# Altium integrated library TPD2E001DRLR.IntLib: 1 symbol
Pins are listed as number, name and electrical type; pins without a type are passive.

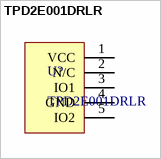
[diagram p0: symbol TPD2E001DRLR]

## TPD2E001DRLR
designator U?
TPD2E001DRLR ESD-PROTECTION; Fabricante: Texas Instruments; Autor: ROUX, Federico G.; Empresa: Neróx; Name: TPD2E001DRLR; URL: www.ti.com; Fecha: 16/06/2011
footprint DRL (DRL Package(R-PDSO-N5 TI))
pins: 1 VCC, 2 N/C, 3 IO1, 4 GND, 5 IO2